# Altium schematic symbol library as14120.SchLib: 25 symbols
Pins are listed as number, name and electrical type; pins without a type are passive.

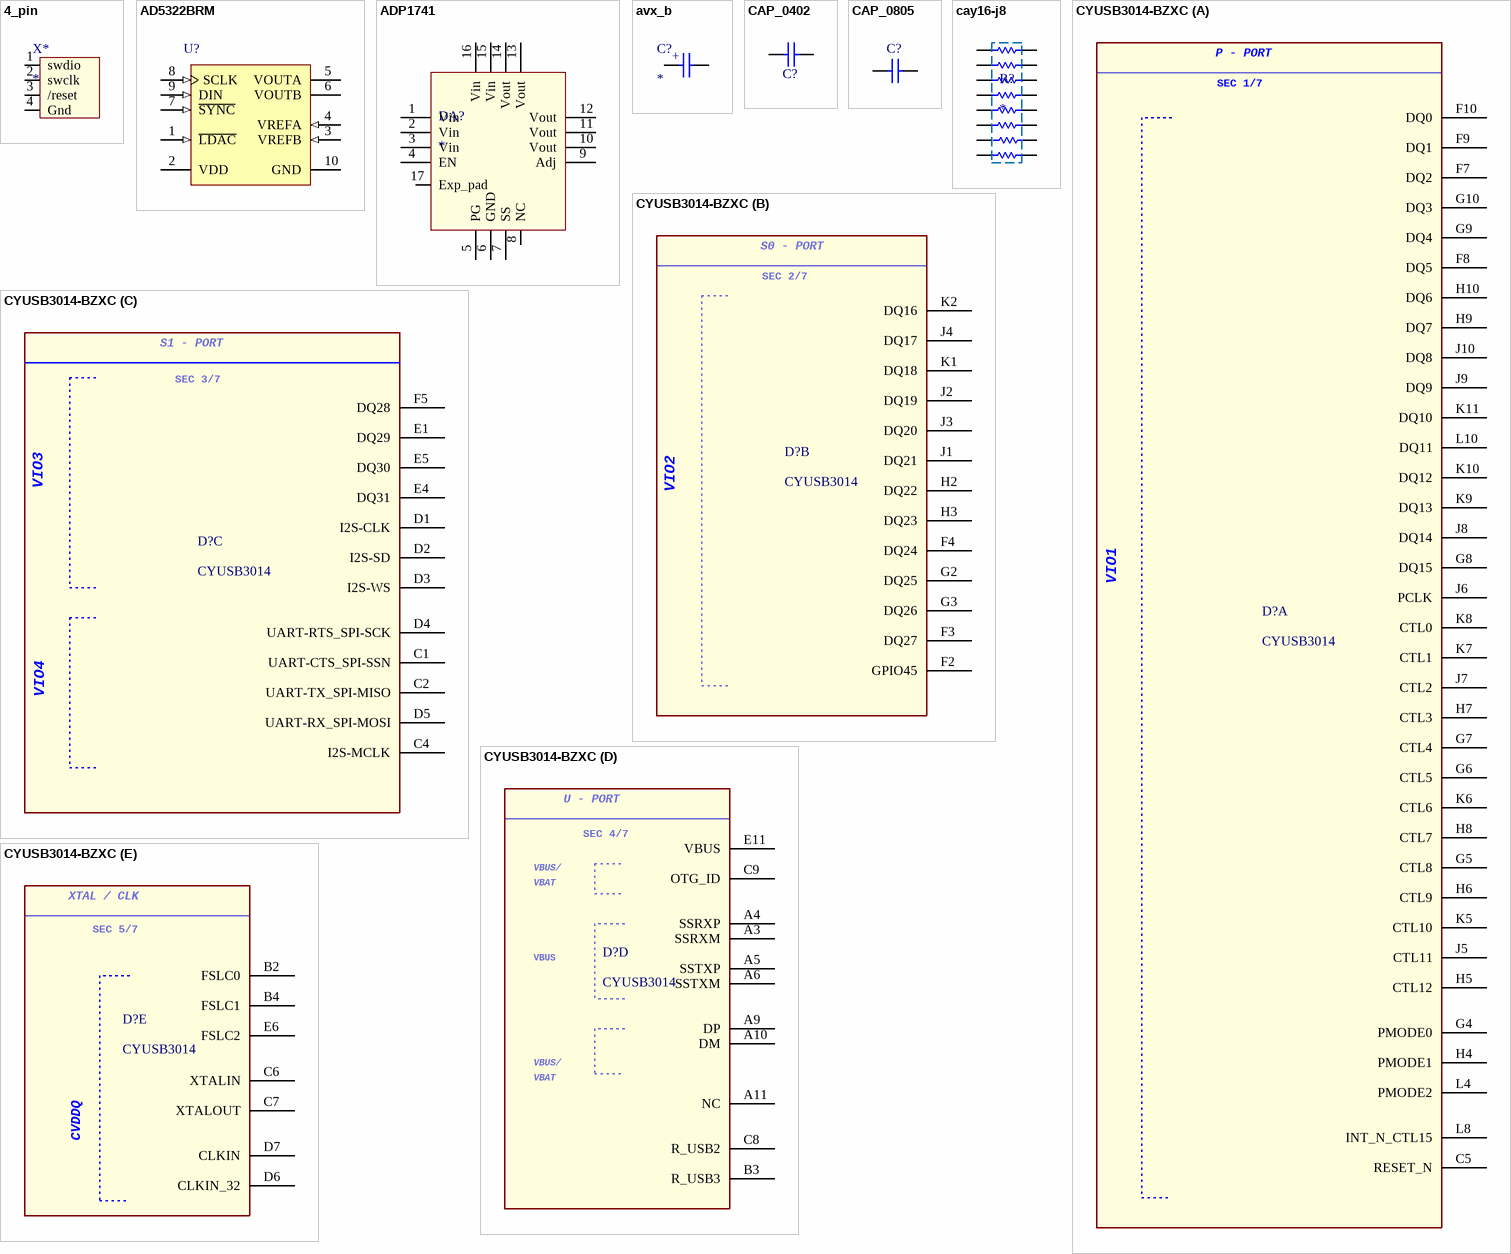
[diagram p0: symbols 4_pin to CYUSB3014-BZXC]

## 4_pin
designator X*
footprint 4_pin
pins: 1 swdio, 2 swclk, 3 /reset, 4 Gnd

## AD5322BRM
designator U?
Dual 12-Bit Rail-to-Rail Output Digital-to-Analog Converter, 2.5 to 5.5 V, -40 to +105 degC, RM-10, Tube; ADI Part Number: AD5322; Manufacturer: Analog Devices; # DAC Outputs: 2; Max V+: 5.5V; Op Pwr Diss: 2.5mW; Resolution (Bits): 12; Settling Time: 8µs; Single Supply: Yes; DatasheetVersion: Rev.D; PackageVersion: May-2005; PackageReference: RM-10; PackageDescription: 10-Lead Mini Small Outline Package [MSOP]; Packing: Tube; RoHS: N; Mounting Technology: Surface Mount; ComponentLink1Description: Manufacturer URL; ComponentLink1URL: http://www.analog.com/en/index.html; ComponentLink2Description: Datasheet; ComponentLink2URL: http://www.analog.com/static/imported-files/data_sheets/AD5302_5312_5322.pdf; ComponentLink3Description: Package Specification; ComponentLink3URL: http://www.analog.com/static/imported-files/packages/PKG_PDF/MSOP%28RM%29/RM_10.pdf; ComponentLink4Description: URL Link1; ComponentLink4URL: Product URL:http://www.analog.com/en/digital-to-analog-converters/da-converters/ad5322/products/product.html
footprint RM-10_L (TSSOP, 10-Leads, Body 3x3mm, Pitch 0.5mm, IPC High Density)
pins: 1 ~{LDAC} (in) "Active Low Control Input. This pin transfers the contents of the input registers to their respective DAC registers. Pulsing L\D\A\C\ low allows either or both DAC registers to be updated if the input registers have new data. (See Datasheet)", 2 VDD (power) "Power Supply Input. The parts can be operated from 2.5 V to 5.5 V, and the supply should be decoupled to GND.", 3 VREFB (in) "Reference Input Pin for DAC B. This is the reference for DAC B. It can be configured as a buffered or an unbuffered input, depending on the BUF bit in the control word of DAC B. It has an input range of 0 V to VDD in (See Datasheet)", 4 VREFA (in) "Reference Input Pin for DAC A. This is the reference for DAC A. It can be configured as a buffered or an unbuffered input depending on the BUF bit in the control word of DAC A. It has an input range of 0 V to VDD in (See Datasheet)", 5 VOUTA (hiz) "Buffered Analog Output Voltage from DAC A. The output amplifier has rail-to-rail operation.", 6 VOUTB (hiz) "Buffered Analog Output Voltage from DAC B. The output amplifier has rail-to-rail operation.", 7 ~{SYNC} (in) "Active Low Control Input. This is the frame synchronization signal for the input data. When S\Y\N\C\ goes low, it powers on the SCLK and DIN buffers and enables the input shift register. Data is transferred in on the falling (See Datasheet)", 8 SCLK (in) "Serial Clock Input. Data is clocked into the input shift register on the falling edge of the serial clock input. Data can be transferred at rates up to 30 MHz. The SCLK input buffer is powered down after each write cycle.", 9 DIN (in) "Serial Data Input. This device has a 16-bit input shift register. Data is clocked into the register on the falling edge of the serial clock input. The DIN input buffer is powered down after each write cycle.", 10 GND (power) "Ground Reference Point for All Circuitry on the Part."

## ADP1741
designator DA?
pins: 1 Vin, 2 Vin, 3 Vin, 4 EN, 5 PG, 6 GND, 7 SS, 8 NC, 9 Adj, 10 Vout, 11 Vout, 12 Vout, 13 Vout, 14 Vout, 15 Vin, 16 Vin, 17 Exp_pad

## avx_b
designator C?
footprint avx_b
pins: 1, 2
text: +

## CAP_0402
designator C?, comment CAP 1uF 10V 0402(1005)  (value not drawn)
CAP 1uF 10V ±20% 0402 (1005 Metric) Thickness 0.6mm SMD; Case-Metric: 1005; Case-EIA: 0402; Tolerance: ±20%; Max Thickness: 0.6 mm; Rated Voltage: 10 V; Technology: SMT; Value: 1uF
footprint CAPC0402(1005)60_M (Chip Capacitor, Body 1.0x0.5mm, Height 0.6mm, IPC Low Density)
pins: 1, 2
1 alternate drawing of the same symbol

## CAP_0805
designator C?  (value not drawn)
footprint CAPC0805(2012)100_L (Chip Capacitor, Body 2.0x1.2mm, Height 1.0mm, IPC High Density)
pins: 1, 2
1 alternate drawing of the same symbol

## cay16-j8
designator R?
Value: *
footprint cay16-j8
pins: 1, 2, 3, 4, 5, 6, 7, 8, 9, 10, 11, 12, 13, 14, 15, 16

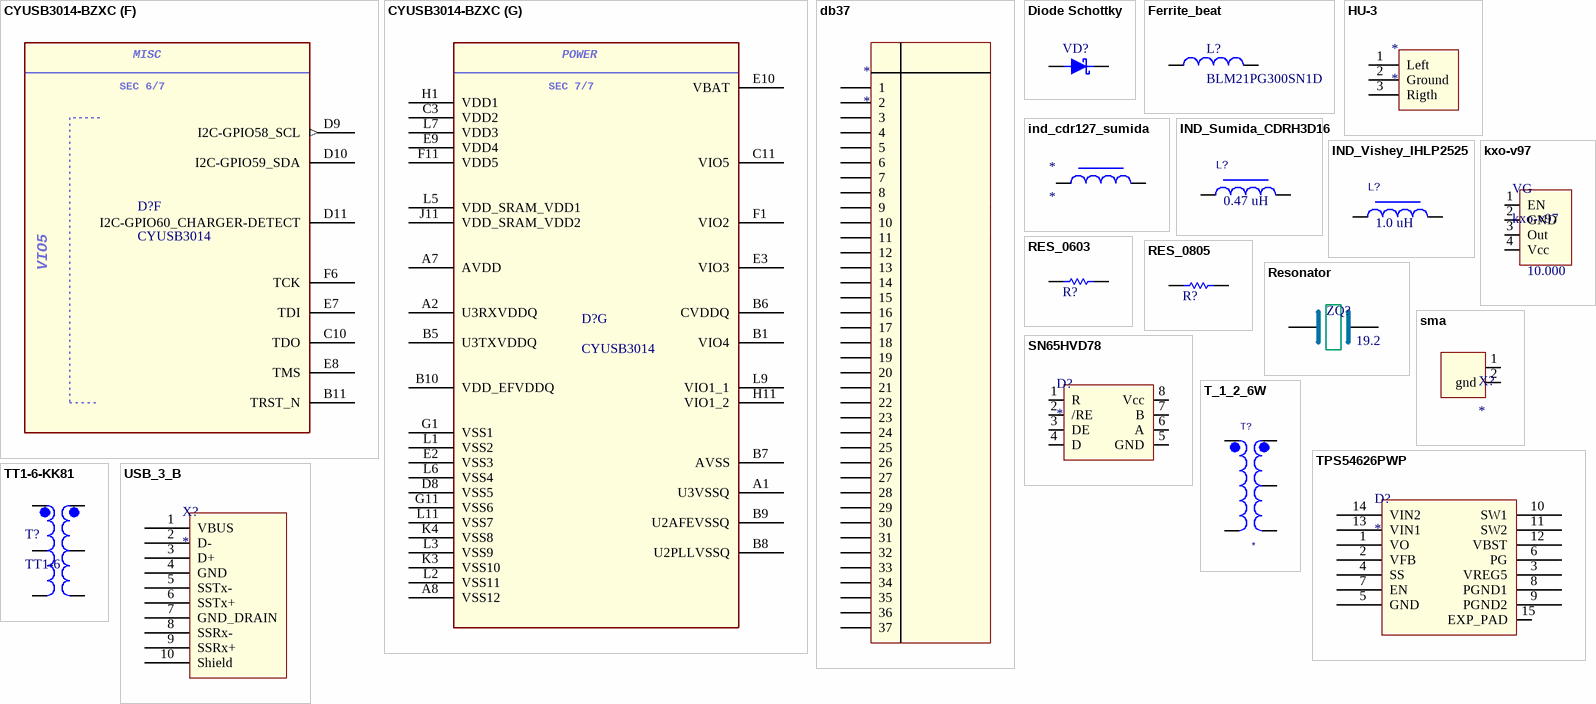
[diagram p1: symbols CYUSB3014-BZXC to USB_3_B]

## CYUSB3014-BZXC
designator D?, comment CYUSB3014
footprint BGA121C80P11X11 (BGA, 121-Leads, Body 10,00x10,00mmx1,20mm, Pitch 0,80mm)
part A pins: C5 RESET_N, F7 DQ2, F8 DQ5, F9 DQ1, F10 DQ0, G4 PMODE0, G5 CTL8, G6 CTL5, G7 CTL4, G8 DQ15, G9 DQ4, G10 DQ3, H4 PMODE1, H5 CTL12, H6 CTL9, H7 CTL3, H8 CTL7, H9 DQ7, H10 DQ6, J5 CTL11, J6 PCLK, J7 CTL2, J8 DQ14, J9 DQ9, J10 DQ8, K5 CTL10, K6 CTL6, K7 CTL1, K8 CTL0, K9 DQ13, K10 DQ12, K11 DQ10, L4 PMODE2, L8 INT_N_CTL15, L10 DQ11
part B pins: F2 GPIO45, F3 DQ27, F4 DQ24, G2 DQ25, G3 DQ26, H2 DQ22, H3 DQ23, J1 DQ21, J2 DQ19, J3 DQ20, J4 DQ17, K1 DQ18, K2 DQ16
part C pins: C1 UART-CTS_SPI-SSN, C2 UART-TX_SPI-MISO, C4 I2S-MCLK, D1 I2S-CLK, D2 I2S-SD, D3 I2S-WS, D4 UART-RTS_SPI-SCK, D5 UART-RX_SPI-MOSI, E1 DQ29, E4 DQ31, E5 DQ30, F5 DQ28
part D pins: A3 SSRXM, A4 SSRXP, A5 SSTXP, A6 SSTXM, A9 DP, A10 DM, A11 NC, B3 R_USB3, C8 R_USB2, C9 OTG_ID, E11 VBUS
part E pins: B2 FSLC0, B4 FSLC1, C6 XTALIN, C7 XTALOUT, D6 CLKIN_32, D7 CLKIN, E6 FSLC2
part F pins: B11 TRST_N, C10 TDO, D9 I2C-GPIO58_SCL (out), D10 I2C-GPIO59_SDA, D11 I2C-GPIO60_CHARGER-DETECT, E7 TDI, E8 TMS, F6 TCK
part G pins: A1 U3VSSQ, A2 U3RXVDDQ, A7 AVDD, A8 VSS12, B1 VIO4, B5 U3TXVDDQ, B6 CVDDQ, B7 AVSS, B8 U2PLLVSSQ, B9 U2AFEVSSQ, B10 VDD_EFVDDQ, C3 VDD2, C11 VIO5, D8 VSS5, E2 VSS3, E3 VIO3, E9 VDD4, E10 VBAT, F1 VIO2, F11 VDD5, G1 VSS1, G11 VSS6, H1 VDD1, H11 VIO1_2, J11 VDD_SRAM_VDD2, K3 VSS10, K4 VSS8, L1 VSS2, L2 VSS11, L3 VSS9, L5 VDD_SRAM_VDD1, L6 VSS4, L7 VDD3, L9 VIO1_1, L11 VSS7
part A text: P - PORT; SEC 1/7; VIO1
part B text: S0 - PORT; SEC 2/7
part C text: S1 - PORT; SEC 3/7
part D text: U - PORT; SEC 4/7; VBUS/
part E text: XTAL / CLK; SEC 5/7
part F text: MISC; SEC 6/7
part G text: POWER; SEC 7/7

## db37
designator *
footprint DSUB1.385-2H25A (Connector; D Subminiature; 25 Position; Right Angle; Pitch 1.385 mm)
pins: 1, 2, 3, 4, 5, 6, 7, 8, 9, 10, 11, 12, 13, 14, 15, 16, 17, 18, 19, 20, 21, 22, 23, 24, 25, 26, 27, 28, 29, 30, 31, 32, 33, 34, 35, 36, 37, 38, 39

## Diode Schottky
designator VD?, comment BAT54WS  (value not drawn)
Schottky Diode; Published: 8-Jun-2000; LatestRevisionDate: 17-Jul-2002; LatestRevisionNote: Re-released for DXP Platform.; PackageReference: SMB; Publisher: Altium Limited; Code_JEDEC: DO-214-AA
footprint sod-323
pins: A, K

## Ferrite_beat
designator L?, comment BLM21PG300SN1D
footprint CAPC0805(2012)100_N (Chip Capacitor, Body 2.0x1.2mm, Height 1.0mm, IPC Medium Density)
pins: 1, 2

## HU-3
designator *
footprint HU-3
pins: 1 Left, 2 Ground, 3 Rigth

## ind_cdr127_sumida
designator *
footprint IND_CDR127_Sumida
pins: 1, 2

## IND_Sumida_CDRH3D16
designator L?  value 0.47 uH  (hidden comment: IND_Sumida_CDRH3D16)
INDUCT
footprint IND_Sumida_CDRH3D16 (SM Inductor; 2 Leads; Body 7.3x6.6mm (LxW))
pins: 1, 2

## IND_Vishey_IHLP2525
designator L?  value 1.0 uH  (hidden comment: IND_Vishey_IHLP2525)
INDUCT
footprint IND_Vishey_IHLP2525 (SM Inductor; 2 Leads; Body 7.3x6.6mm (LxW))
pins: 1, 2

## kxo-v97
designator VG  value 10.000
footprint kxo-v97
pins: 1 EN, 2 GND, 3 Out, 4 Vcc

## RES_0603
designator R?, comment 1K 5% 0603(1608)  (value not drawn)
1K 0.1W 5% 0603 (1608 Metric)  SMD; Case-EIA: 0603; Case-Metric: 1608; Value: 1000.00 Ohm; Technology: SMT; Tolerance: 5 %; Power: 0.1 W
footprint RESC0603(1608)_L (Chip Resistor, Body 1.6x0.8mm, IPC High Density)
pins: 1, 2
1 alternate drawing of the same symbol

## RES_0805
designator R?, comment 1K 1% 0805(2012)  (value not drawn)
1K 0.125W 1% 0805 (2012 Metric)  SMD; Case-Metric: 2012; Value: 1000.00 Ohm; Case-EIA: 0805; Tolerance: 1 %; Power: 0.125 W; Technology: SMT
footprint RESC0805(2012)_L (Chip Resistor, Body 2.0x1.3mm, IPC High Density)
pins: 1, 2
1 alternate drawing of the same symbol

## Resonator
designator ZQ?  value 19.2  (hidden comment: *)
footprint BCY-W2/E4.7 (Quartz Crystal, Thru-Hole; 2 Leads; Body 11.35 x 4.65 x 13.46 mm (LxWxH max))
pins: 1, 2

## sma
designator X?
footprint sma
pins: 1, 2 gnd

## SN65HVD78
designator D?
footprint 8S1_M (SOIC, 8-Leads, Body 4.9x3.9mm, Pitch 1.27mm, IPC Low Density)
pins: 1 R, 2 /RE, 3 DE, 4 D, 5 GND, 6 A, 7 B, 8 Vcc

## T_1_2_6W
designator T?
T_1_2_6W; Value: *
footprint T_2_1_6W
pins: 1, 2 1, 3 1, 4 1, 6 1

## TPS54626PWP
designator D?
footprint TPS54626pwp (PowerPAD  ( R-PDSO-G14 ))
pins: 1 VO, 2 VFB, 3 VREG5, 4 SS, 5 GND, 6 PG, 7 EN, 8 PGND1, 9 PGND2, 10 SW1, 11 SW2, 12 VBST, 13 VIN1, 14 VIN2, 15 EXP_PAD

## TT1-6-KK81
designator T?, comment TT1-6
footprint TT!-6-KK81
pins: 1, 2, 3, 4, 5, 6

## USB_3_B
designator X?
pins: 1 VBUS, 2 D-, 3 D+, 4 GND, 5 SSTx-, 6 SSTx+, 7 GND_DRAIN, 8 SSRx-, 9 SSRx+, 10 Shield